# Altium footprint library ece315.PcbLib: 26 footprints (part 1 of 2)
Each footprint in its own frame and in the unit in brackets; x right, y up, seen from the top. Pads: shape width x height; smd on the part's side, far side on the other; paste and mask are expansions set on the pad; w line width, h text height; cw(c..) or ccw(c..) is an arc to the next point about the centre after c.
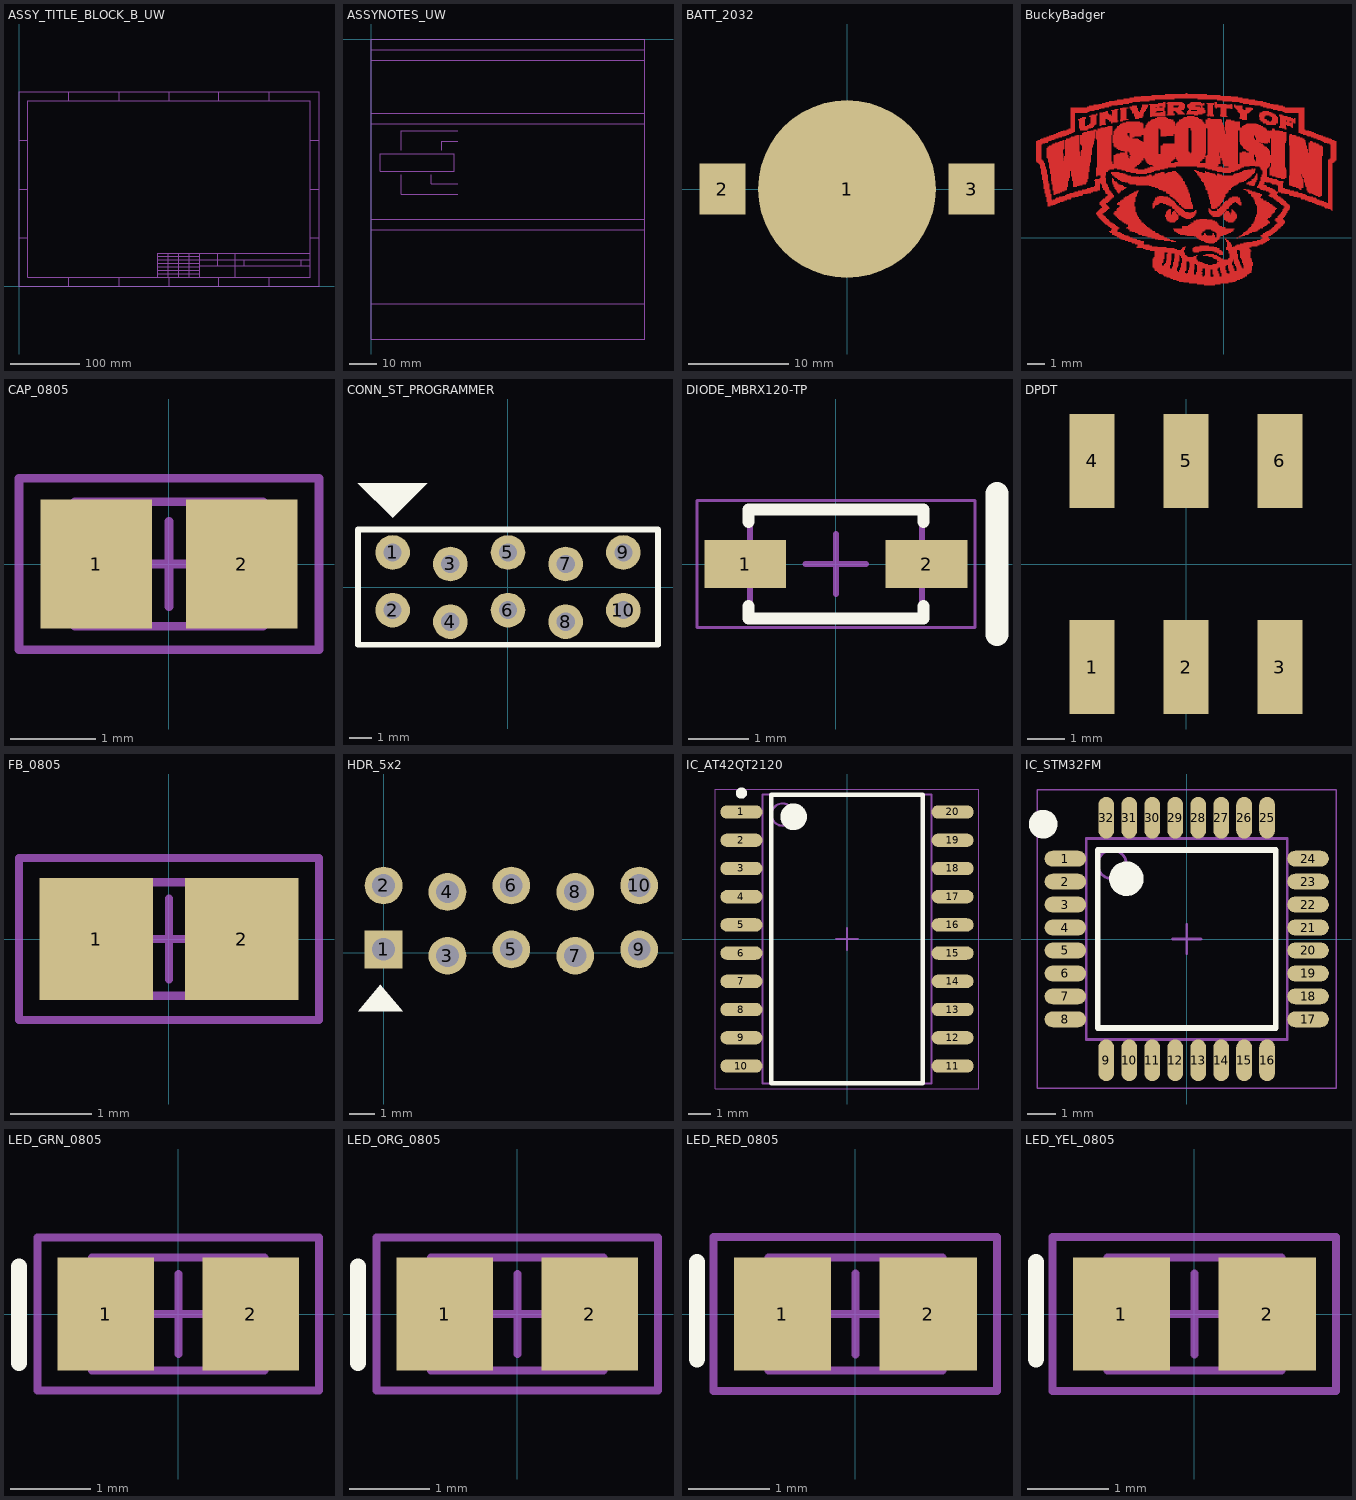
[diagram p0: the footprints below, top view; thin cyan lines are the x and y axes]

## ASSY_TITLE_BLOCK_B_UW [mm] "Assembly Title Block"
Mechanical 17:
  lines w0.127: 0,69.85 12.7,69.85 ; 0,139.7 12.7,139.7 ; 0,209.55 12.7,209.55 ; 71.967,0 71.967,12.7 ; 71.967,266.7 71.967,279.4 ; 143.933,0 143.933,12.7 ; 143.933,266.7 143.933,279.4 ; 199.39,12.7 199.39,46.99 260.35,46.99 ; 199.39,17.78 260.35,17.78 ; 199.39,22.86 260.35,22.86 ; 199.39,27.94 260.35,27.94 ; 199.39,33.02 260.35,33.02 ; 199.39,38.1 260.35,38.1 ; 199.39,43.18 260.35,43.18 ; 213.36,38.1 260.35,38.1 ; 214.63,12.7 214.63,46.99 ; 215.9,0 215.9,12.7 ; 215.9,266.7 215.9,279.4 ; 229.87,12.7 229.87,46.99 ; 245.11,12.7 245.11,46.99 ; 260.35,12.7 260.35,46.99 ; 260.35,29.21 419.1,29.21 ; 285.75,29.21 285.75,46.99 ; 287.867,0 287.867,12.7 ; 287.867,266.7 287.867,279.4 ; 311.15,12.7 311.15,46.99 ; 323.85,29.21 323.85,38.1 ; 359.833,0 359.833,12.7 ; 359.833,266.7 359.833,279.4 ; 406.4,29.21 406.4,38.1 ; 419.1,38.1 260.35,38.1 ; 419.1,46.99 260.35,46.99 ; 419.1,69.85 431.8,69.85 ; 419.1,139.7 431.8,139.7 ; 419.1,209.55 431.8,209.55 ; 0,0 431.8,0 431.8,279.4 0,279.4 0,0 ; 12.7,12.7 12.7,266.7 419.1,266.7 419.1,12.7 12.7,12.7
  text "FALL 2014" at 381,13.97 h5.08
  text "ECE 453" at 381,19.05 h5.08
  text "MADISON, WI 53706" at 316.23,13.97 h5.08
  text "1415 ENGINEERING DRIVE" at 316.23,19.05 h5.08
  text "UNIVERSTIY OF WISCONSIN - MADISON" at 316.23,24.13 h5.08
  text "Date:" at 247.65,44.45 h2.54
  text "C" at 424.18,103.505 h5.08
  text "D" at 5.08,33.655 h5.08
  text "Size:" at 313.69,35.56 h2.54
  text "5" at 322.58,271.78 h5.08
  text "4" at 251.46,5.08 h5.08
  text "2" at 106.68,5.08 h5.08
  text "Rev:" at 408.94,35.56 h2.54
  text "1" at 35.56,5.08 h5.08
  text "Unless otherwise specified:" at 262.89,26.67 h2.54
  text "B" at 424.18,173.355 h5.08
  text "1" at 35.56,271.78 h5.08
  text "2" at 106.68,271.78 h5.08
  text "4" at 251.46,271.78 h5.08
  text "B" at 5.08,173.355 h5.08
  text "6" at 394.97,271.78 h5.08
  text "C" at 5.08,103.505 h5.08
  text "Date:" at 288.29,44.45 h2.54
  text "3" at 179.07,271.78 h5.08
  text "Revison:" at 201.93,44.45 h2.54
  text "Approved:" at 232.41,44.45 h2.54
  text "D" at 424.18,33.655 h5.08
  text "ECO:" at 217.17,44.45 h2.54
  text "Drawn By:" at 262.89,44.45 h2.54
  text "5" at 322.58,5.08 h5.08
  text "Assembly No:" at 326.39,35.56 h2.54
  text "Approved By:" at 262.89,35.56 h2.54
  text "A" at 5.08,243.205 h5.08
  text "A" at 424.18,243.205 h5.08
  text "6" at 394.97,5.08 h5.08
  text "Date:" at 288.29,35.56 h2.54
  text "Title:" at 313.69,44.45 h2.54
  text "3" at 179.07,5.08 h5.08

## ASSYNOTES_UW [mm] "Assembly Notes Block"
Mechanical 17:
  lines w0.254: 0,-95.25 98.425,-95.25 ; 0,-68.58 98.425,-68.58 ; 0,-64.77 98.425,-64.77 ; 0,-30.48 98.425,-30.48 ; 0,-26.67 98.425,-26.67 ; 0,-7.62 98.425,-7.62 ; 0,-3.81 98.425,-3.81 ; 10.795,-48.895 10.795,-55.88 31.115,-55.88 ; 10.795,-40.005 10.795,-33.02 31.115,-33.02 ; 21.59,-48.895 21.59,-52.07 31.115,-52.07 ; 25.4,-40.005 25.4,-36.83 31.115,-36.83 ; 0,-107.95 0,0 98.425,0 98.425,-107.95 0,-107.95 ; 3.175,-47.625 29.845,-47.625 29.845,-41.275 3.175,-41.275 3.175,-47.625
  text "XXXX  -  XXXXX" at 7.62,-46.355 h2.54
  text "XXXXXXXX      REV_X" at 4.445,-43.815 h2.54
  text "- LABEL SIZE IS FLEXIBLE BUT MUST AVOID ALL EXPOSED SOLDER LOCATIONS" at 3.175,-63.5 h2.54
  text "- BARCODE INFO (OPTIONAL)" at 3.175,-60.325 h2.54
  text "CM JOB NUMBER - TRACEABLE TO GILSON P.O. NUMBER" at 31.75,-56.515 h2.54
  text "SERIAL NUMBER - 5 DIGIT MINIMUM" at 31.75,-52.705 h2.54
  text "REVISION LEVEL - ALPHA CHARACTER" at 31.75,-37.465 h2.54
  text "ASSEMBLY NUMBER" at 31.75,-33.655 h2.54
  text "LABEL FORMAT DETAIL:" at 1.27,-29.21 h2.54
  text "- Label form factor and type sizes are flexible." at 3.175,-25.4 h2.54
  text "- (Optional) 1-D Barcode indicating at least the serial number" at 6.35,-22.86 h2.54
  text "- Serial Number (at least 5-digits and unique accross all Gilson assemblies)" at 6.35,-20.32 h2.54
  text "- Job Number (4-digit number that is traceable by CM to the PO)" at 6.35,-17.78 h2.54
  text "- Revision" at 6.35,-15.24 h2.54
  text "- Assembly Number" at 6.35,-12.7 h2.54
  text "- PCBA must have a label that contains the following information" at 3.175,-10.16 h2.54
  text "ELECTRICAL COMPLIANCE:" at 1.27,-98.425 h2.54
  text "ASSEMBLY SPECIFICATIONS" at 1.27,-2.54 h2.54
  text "LABELING NOTES:" at 1.27,-6.35 h2.54
  text "OTHER ASSEMBLY NOTES:" at 1.27,-67.31 h2.54
  text "The parts and process used to create the item shown on this drawing or datasheet must conform" at 4.445,-102.235 h2.54
  text "to the IPC-A-600D and UL 94V-0 standards" at 4.445,-106.045 h2.54
  text "- PCBA must be labeled with RoHS status." at 3.175,-71.12 h2.54

## BATT_2032 [mil] "HOLDER BATTERY 20MM COIN"
pads (3):
  round 700 smd: 1(0,0)
  rect 180x200 smd: 2(-490,0) 3(490,0)
3D body "BAT_2023_Holder.stp": height 149.61, standoff 0, extent -599.33,-398.2 609.34,384.57

## BuckyBadger [mm] "BuckyBadger Logo"
Top Layer:
  drawing of 2083 lines, arcs and shapes, not listed
  text "ECE 315" at -6.425,-5.218 h1.02
Top Solder:
  drawing of 2083 lines, arcs and shapes, not listed
  text "ECE 315" at -6.425,-5.218 h1.02

## CAP_0805 [mm]
pads (2):
  rect 1.3x1.5 smd: 1(-0.85,0) 2(0.85,0)
Mechanical 13:
  lines w0.1: -1.1,-0.725 -1.1,0.725 1.1,0.725 1.1,-0.725 -1.1,-0.725
Mechanical 15:
  lines w0.1: -0.5,0 0.5,0 ; 0,-0.5 0,0.5 ; -1.75,-1 -1.75,1 1.75,1 1.75,-1 -1.75,-1
3D body: height 1.1, standoff 0, extent -1.1,-0.725 1.1,0.725

## CONN_ST_PROGRAMMER [mil] "0.1' spaced 5x2 header"
pads (10):
  round 60 hole 31.5: 1(-200,60) 2(-200,-40) 3(-100,40) 4(-100,-60) 5(0,60) 6(0,-40) 7(100,40) 8(100,-60) 9(200,60) 10(200,-40)
Top Overlay:
  region: -200,120 -140,180 -260,180
  lines w10: -260,-100 -260,100 -200,100 200,100 260,100 260,-100 -260,-100
3D body "STEP-61301021821-rev1.stp": height 325.35, standoff -127.4, extent -259.84,-100 259.85,100

## DIODE_MBRX120-TP [mm] "MBRX120-160, SODFL, 2-Leads, Body 1.60x3.70mm, IPC Medium Density"
height 1.35
pads (2):
  rect 1.35x0.8 smd: 1(-1.5,0) 2(1.5,0)
Top Overlay:
  lines w0.2: -1.45,-0.7 -1.45,-0.9 1.45,-0.9 1.45,-0.7 ; -1.45,0.7 -1.45,0.9 1.45,0.9 1.45,0.7
  lines w0.381: 2.667,-1.168 2.667,1.168
Mechanical 13:
  lines w0.1: -1.425,-0.9 1.425,-0.9 1.425,0.9 -1.425,0.9 -1.425,-0.9
Mechanical 15:
  lines w0.05: -2.3,-1.05 2.3,-1.05 2.3,1.05 -2.3,1.05 -2.3,-1.05
  lines w0.1: -0.5,0 0.5,0 ; 0,-0.5 0,0.5
3D body: height 1.35, standoff 0, extent -1.425,-0.9 1.425,0.9

## DPDT [mm] "SWITCH SLIDE DPDT 300MA 6V"
pads (6):
  rect 1.2x2.5 smd: 1(-2.5,-2.75) 2(0,-2.75) 3(2.5,-2.75) 4(-2.5,2.75) 5(0,2.75) 6(2.5,2.75)

## FB_0805 [mm] "Chip Inductor, Body 2.0x1.2mm, IPC Medium Density"
height 1.1
pads (2):
  rect 1.4x1.5 smd: 1(-0.9,0) 2(0.9,0)
Mechanical 13:
  lines w0.1: -1.1,-0.7 1.1,-0.7 1.1,0.7 -1.1,0.7 -1.1,-0.7
Mechanical 15:
  lines w0.1: -0.5,0 0.5,0 ; 0,-0.5 0,0.5 ; -1.85,-1 1.85,-1 1.85,1 -1.85,1 -1.85,-1
3D body: height 1.1, standoff 0, extent -1.1,-0.7 1.1,0.7

## HDR_5x2 [mm] "HEADER 10POS SOCKET DL 2.54 MM"
pads (10):
  rect 1.5x1.5 hole 0.9: 1(0,0.127)
  round 1.5 hole 0.9: 2(0,2.667) 3(2.54,-0.127) 4(2.54,2.413) 5(5.08,0.127) 6(5.08,2.667) 7(7.62,-0.127) 8(7.62,2.413) 9(10.16,0.127) 10(10.16,2.667)
Top Overlay:
  region: 0.762,-2.337 -0.127,-1.27 -1.016,-2.337
3D body "STEP-61301021821-rev1.stp": height 8.64, standoff -2.86, extent -1.549,-1.143 11.651,3.937

## IC_AT42QT2120 [mm] "SOIC, 20-Leads, Body 12.80x7.50mm, Pitch 1.27mm, IPC Medium Density"
height 2.65
pads (20):
  oval 1.9x0.6 smd: 1(-4.75,5.715) 2(-4.75,4.445) 3(-4.75,3.175) 4(-4.75,1.905) 5(-4.75,0.635) 6(-4.75,-0.635) 7(-4.75,-1.905) 8(-4.75,-3.175) 9(-4.75,-4.445) 10(-4.75,-5.715) 11(4.75,-5.715) 12(4.75,-4.445) 13(4.75,-3.175) 14(4.75,-1.905) 15(4.75,-0.635) 16(4.75,0.635) 17(4.75,1.905) 18(4.75,3.175) 19(4.75,4.445) 20(4.75,5.715)
Top Overlay:
  circle w0.25: c-4.75,6.565 r0.125
  circle w0.6: c-2.4,5.5 r0.3
  lines w0.2: -3.4,-6.5 -3.4,6.5 3.4,6.5 3.4,-6.5 -3.4,-6.5
Mechanical 13:
  circle w0.1: c-2.9,5.6 r0.5
  lines w0.1: -3.8,-6.5 -3.8,6.5 3.8,6.5 3.8,-6.5 -3.8,-6.5
Mechanical 15:
  lines w0.05: -5.925,-6.75 -5.925,6.75 5.925,6.75 5.925,-6.75 -5.925,-6.75
  lines w0.1: -0.5,0 0.5,0 ; 0,-0.5 0,0.5
3D body: height 2.65, standoff 0.1, extent -3.8,-6.5 3.8,6.5

## IC_STM32FM [mm] "ST QFP 32 Pins"
height 1.6
pads (32):
  oval 1.45x0.55 smd: 1(-4.225,2.8) 2(-4.225,2) 3(-4.225,1.2) 4(-4.225,0.4) 5(-4.225,-0.4) 6(-4.225,-1.2) 7(-4.225,-2) 8(-4.225,-2.8) 17(4.225,-2.8) 18(4.225,-2) 19(4.225,-1.2) 20(4.225,-0.4) 21(4.225,0.4) 22(4.225,1.2) 23(4.225,2) 24(4.225,2.8)
  oval 0.55x1.45 smd: 9(-2.8,-4.225) 10(-2,-4.225) 11(-1.2,-4.225) 12(-0.4,-4.225) 13(0.4,-4.225) 14(1.2,-4.225) 15(2,-4.225) 16(2.8,-4.225) 25(2.8,4.225) 26(2,4.225) 27(1.2,4.225) 28(0.4,4.225) 29(-0.4,4.225) 30(-1.2,4.225) 31(-2,4.225) 32(-2.8,4.225)
Top Overlay:
  circle w0.6: c-2.1,2.1 r0.3
  circle w0.5: c-5,4 r0.25
  lines w0.2: -3.1,-3.1 3.1,-3.1 3.1,3.1 -3.1,3.1 -3.1,-3.1
Mechanical 13:
  circle w0.1: c-2.6,2.6 r0.5
  lines w0.1: -3.5,-3.5 3.5,-3.5 3.5,3.5 -3.5,3.5 -3.5,-3.5
Mechanical 15:
  lines w0.05: -5.2,-5.2 5.2,-5.2 5.2,5.2 -5.2,5.2 -5.2,-5.2
  lines w0.1: -0.5,0 0.5,0 ; 0,-0.5 0,0.5
3D body: height 1.6, standoff 0.05, extent -3.5,-3.5 3.5,3.5

## LED_GRN_0805 [mm]
pads (2):
  rect 1.2x1.4 smd: 1(-0.9,0) 2(0.9,0)
Top Overlay:
  lines w0.2: -1.981,-0.61 -1.981,0.59
Mechanical 13:
  lines w0.1: -1.075,-0.7 -1.075,0.7 1.075,0.7 1.075,-0.7 -1.075,-0.7
Mechanical 15:
  lines w0.1: -0.5,0 0.5,0 ; 0,-0.5 0,0.5 ; -1.75,-0.95 -1.75,0.95 1.75,0.95 1.75,-0.95 -1.75,-0.95
3D body: height 0.8, standoff 0, extent -1.075,-0.7 1.075,0.7

## LED_ORG_0805 [mm]
pads (2):
  rect 1.2x1.4 smd: 1(-0.9,0) 2(0.9,0)
Top Overlay:
  lines w0.2: -1.981,-0.61 -1.981,0.59
Mechanical 13:
  lines w0.1: -1.075,-0.7 1.075,-0.7 1.075,0.7 -1.075,0.7 -1.075,-0.7
Mechanical 15:
  lines w0.1: -0.5,0 0.5,0 ; 0,-0.5 0,0.5 ; -1.75,-0.95 1.75,-0.95 1.75,0.95 -1.75,0.95 -1.75,-0.95
3D body: height 0.8, standoff 0, extent -1.075,-0.7 1.075,0.7

## LED_RED_0805 [mm]
pads (2):
  rect 1.2x1.4 smd: 1(-0.9,0) 2(0.9,0)
Top Overlay:
  lines w0.2: -1.956,-0.559 -1.956,0.641
Mechanical 13:
  lines w0.1: -1.075,-0.7 1.075,-0.7 1.075,0.7 -1.075,0.7 -1.075,-0.7
Mechanical 15:
  lines w0.1: -0.5,0 0.5,0 ; 0,-0.5 0,0.5 ; -1.75,-0.95 1.75,-0.95 1.75,0.95 -1.75,0.95 -1.75,-0.95
3D body: height 0.8, standoff 0, extent -1.075,-0.7 1.075,0.7

## LED_YEL_0805 [mm]
pads (2):
  rect 1.2x1.4 smd: 1(-0.9,0) 2(0.9,0)
Top Overlay:
  lines w0.2: -1.956,-0.559 -1.956,0.641
Mechanical 13:
  lines w0.1: -1.075,-0.7 1.075,-0.7 1.075,0.7 -1.075,0.7 -1.075,-0.7
Mechanical 15:
  lines w0.1: -0.5,0 0.5,0 ; 0,-0.5 0,0.5 ; -1.75,-0.95 1.75,-0.95 1.75,0.95 -1.75,0.95 -1.75,-0.95
3D body: height 0.8, standoff 0, extent -1.075,-0.7 1.075,0.7